# Altium schematic symbol library Circuit Protection Symbols.SchLib: 3 symbols
Pins are listed as number, name and electrical type; pins without a type are passive.

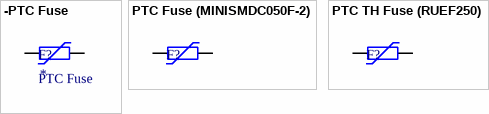
[diagram p0: symbols -PTC Fuse to PTC TH Fuse (RUEF250)]

## -PTC Fuse
designator F?, comment PTC Fuse
PTC Resettable Fuse; Value: *
footprint PTC 1812_N (PTC Fuse, Body 4.5x3.2mm, IPC Medium Density)
pins: 1, 2
1 alternate drawing of the same symbol

## PTC Fuse (MINISMDC050F-2)
designator F?, comment PTC Fuse  (value not drawn)
Resettable Fuse, 1A, 24V; Value: MINISMDC050F-2; Supplier 1: Mouser; Supplier Part Number 1: 650-MINISMDC050F-2
footprint PTC 1812_N (PTC Fuse, Body 4.5x3.2mm, IPC Medium Density)
pins: 1, 2
1 alternate drawing of the same symbol

## PTC TH Fuse (RUEF250)
designator F?, comment PTC Fuse  (value not drawn)
Resettable Fuse, 5A, 30V; Value: RUEF250; Supplier 1: Mouser; Supplier Part Number 1: 650-RUEF250
footprint TH-PTC-5.8MM (PTC Fuse, Through Hole, Radial, 5.8mm Pitch)
pins: 1, 2
1 alternate drawing of the same symbol